# Altium footprint library FAIRCHILD SSOT-23-3.PCBLIB: 1 footprints
Each footprint in its own frame and in the unit in brackets; x right, y up, seen from the top. Pads: shape width x height; smd on the part's side, far side on the other; paste and mask are expansions set on the pad; w line width, h text height; cw(c..) or ccw(c..) is an arc to the next point about the centre after c.
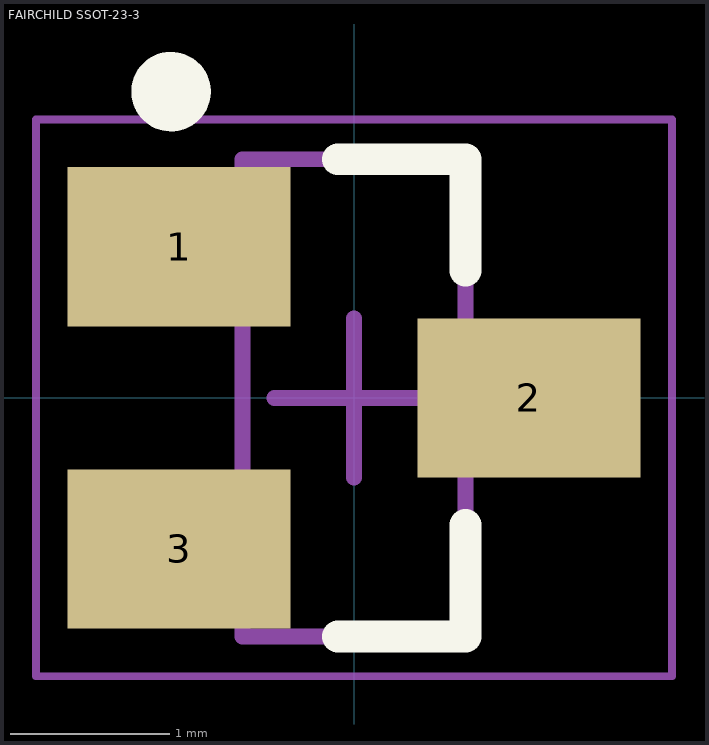
[diagram p0: the footprint, top view; thin cyan lines are the x and y axes]

## FAIRCHILD SSOT-23-3 [mm] "SOT23, 3-Leads, Body 2.90x2.40mm, Pitch 0.95mm, IPC Medium Density"
height 1.35
pads (3):
  rect 1.4x1 smd: 1(-1.1,0.95) 2(1.1,0) 3(-1.1,-0.95)
Top Overlay:
  circle w0.25: c-1.15,1.925 r0.125
  lines w0.2: -0.1,-1.5 0.7,-1.5 0.7,-0.8 ; -0.1,1.5 0.7,1.5 0.7,0.8
Mechanical 13:
  lines w0.1: -0.7,-1.5 -0.7,1.5 0.7,1.5 0.7,-1.5 -0.7,-1.5
Mechanical 15:
  lines w0.05: -2,-1.75 -2,1.75 2,1.75 2,-1.75 -2,-1.75
  lines w0.1: -0.5,0 0.5,0 ; 0,-0.5 0,0.5
3D body "sot-23-3-fairchild-supersot.STEP": height 1, standoff 0, extent -1.265,-1.46 1.265,1.46